# EAGLE library part TL4242DRJR (library ICs)
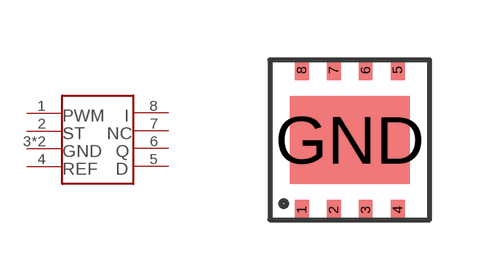
[diagram p0: symbol with the pads of QFN; footprint QFN]

Designator prefix -

## TL4242DRJR  [QFN]
1  PWM
2  ST
3  GND
4  REF
5  D
6  Q
7  NC
8  I
GND  GND

## Footprint QFN (pad centres in mm)
smd 0.35 x 0.5: 1 0.8,0.25; 2 1.6,0.25; 3 2.4,0.25; 4 3.2,0.25; 5 3.2,3.75; 6 2.4,3.75; 7 1.6,3.75; 8 0.8,3.75
smd 3 x 2.2: GND 2,2